# EAGLE library part 4P (library DIPスイッチ)
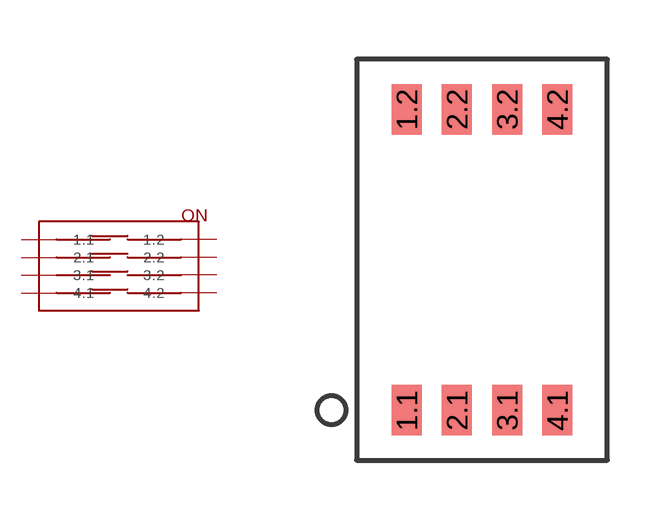
[diagram p0: symbol with the pads of 4P; footprint 4P]

Designator prefix -

## 4P  [4P]
1.1  1.1
1.2  1.2
2.1  2.1
2.2  2.2
3.1  3.1
3.2  3.2
4.1  4.1
4.2  4.2

## Footprint 4P (pad centres in mm)
smd 0.76 x 1.27: 1.1 0,0; 1.2 0,7.62; 2.1 1.27,0; 2.2 1.27,7.62; 3.1 2.54,0; 3.2 2.54,7.62; 4.1 3.81,0; 4.2 3.81,7.62